# Altium integrated library Extra-ECSESummer-Integrated.IntLib: 2 symbols
Pins are listed as number, name and electrical type; pins without a type are passive.

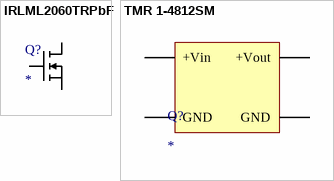
[diagram p0: symbols IRLML2060TRPbF to TMR 1-4812SM]

## IRLML2060TRPbF
designator Q?
IRLML2060TRPbF N-Channel MOSFET; ComponentLink1Description: Datasheet; ComponentLink1URL: https://www.infineon.com/dgdl/irlml2060pbf.pdf?fileId=5546d462533600a401535664b7fb25ee
footprint IRLML2060TRPbF (IRLML2060TRPbF N-Channel MOSFET)
pins: 0 G, 1 D, 2 S

## TMR 1-4812SM
designator Q?
DC-DC SM Regulator; ComponentLink1Description: Datasheet; ComponentLink1URL: https://www.tracopower.com/products/tmr1sm.pdf
footprint TMR 1-4812SM Footprint (Footprint for TMR 1-4812SM)
pins: 0 GND, 1 +Vin, 2 GND, 3 +Vout